# Altium footprint library Diode_Diodes_Inc._1N4148WSF-7_eec_MFG.PcbLib: 1 footprints
Each footprint in its own frame and in the unit in brackets; x right, y up, seen from the top. Pads: shape width x height; smd on the part's side, far side on the other; paste and mask are expansions set on the pad; w line width, h text height; cw(c..) or ccw(c..) is an arc to the next point about the centre after c.
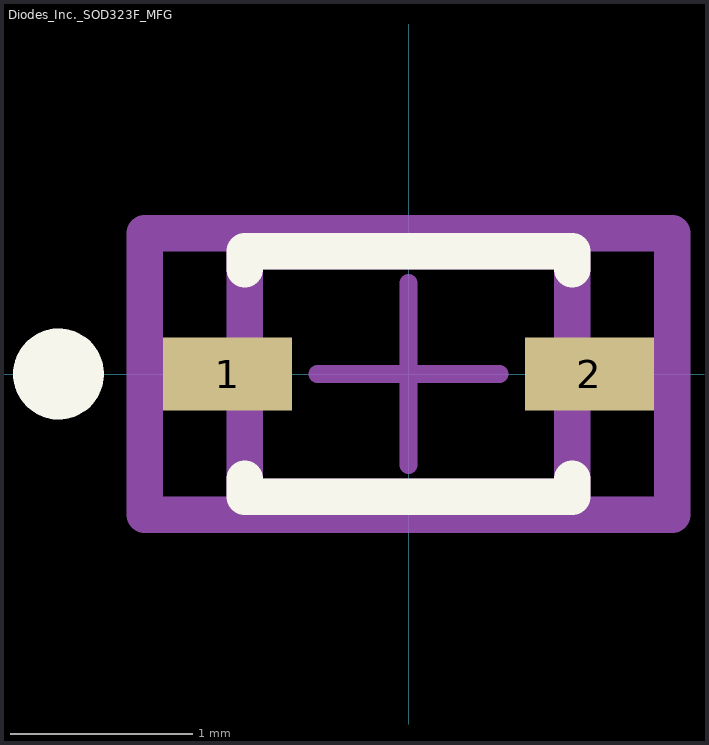
[diagram p0: the footprint, top view; thin cyan lines are the x and y axes]

## Diodes_Inc._SOD323F_MFG [mm]
pads (2):
  rect 0.71x0.403 smd paste+0 mask+0: 1(-0.995,0) 2(0.995,0)
Top Overlay:
  circle w0.25: c-1.925,0 r0.125
  lines w0.2: -0.9,-0.577 -0.9,-0.675 0.9,-0.675 0.9,-0.577 ; -0.9,0.577 -0.9,0.675 0.9,0.675 0.9,0.577
Mechanical 10:
  lines w0.2: -1.45,-0.775 1.45,-0.775 1.45,0.775 -1.45,0.775 -1.45,-0.775
  text ".Designator" at 0,0 h1
Mechanical 12:
  lines w0.2: -0.9,-0.675 0.9,-0.675 0.9,0.675 -0.9,0.675 -0.9,-0.675
Mechanical 15:
  lines w0.1: -0.5,0 0.5,0 ; 0,-0.5 0,0.5
  lines w0.2: -1.45,-0.775 1.45,-0.775 1.45,0.775 -1.45,0.775 -1.45,-0.775
3D body "Diode_Diodes_Inc._1N4148WSF-7_eec.STEP": height 0.25, standoff 0, extent -1.45,-0.775 1.45,0.775